# Altium integrated library Silicon Labs Clocks and Oscillators.IntLib: 678 symbols (part 1 of 45)
Pins are listed as number, name and electrical type; pins without a type are passive.

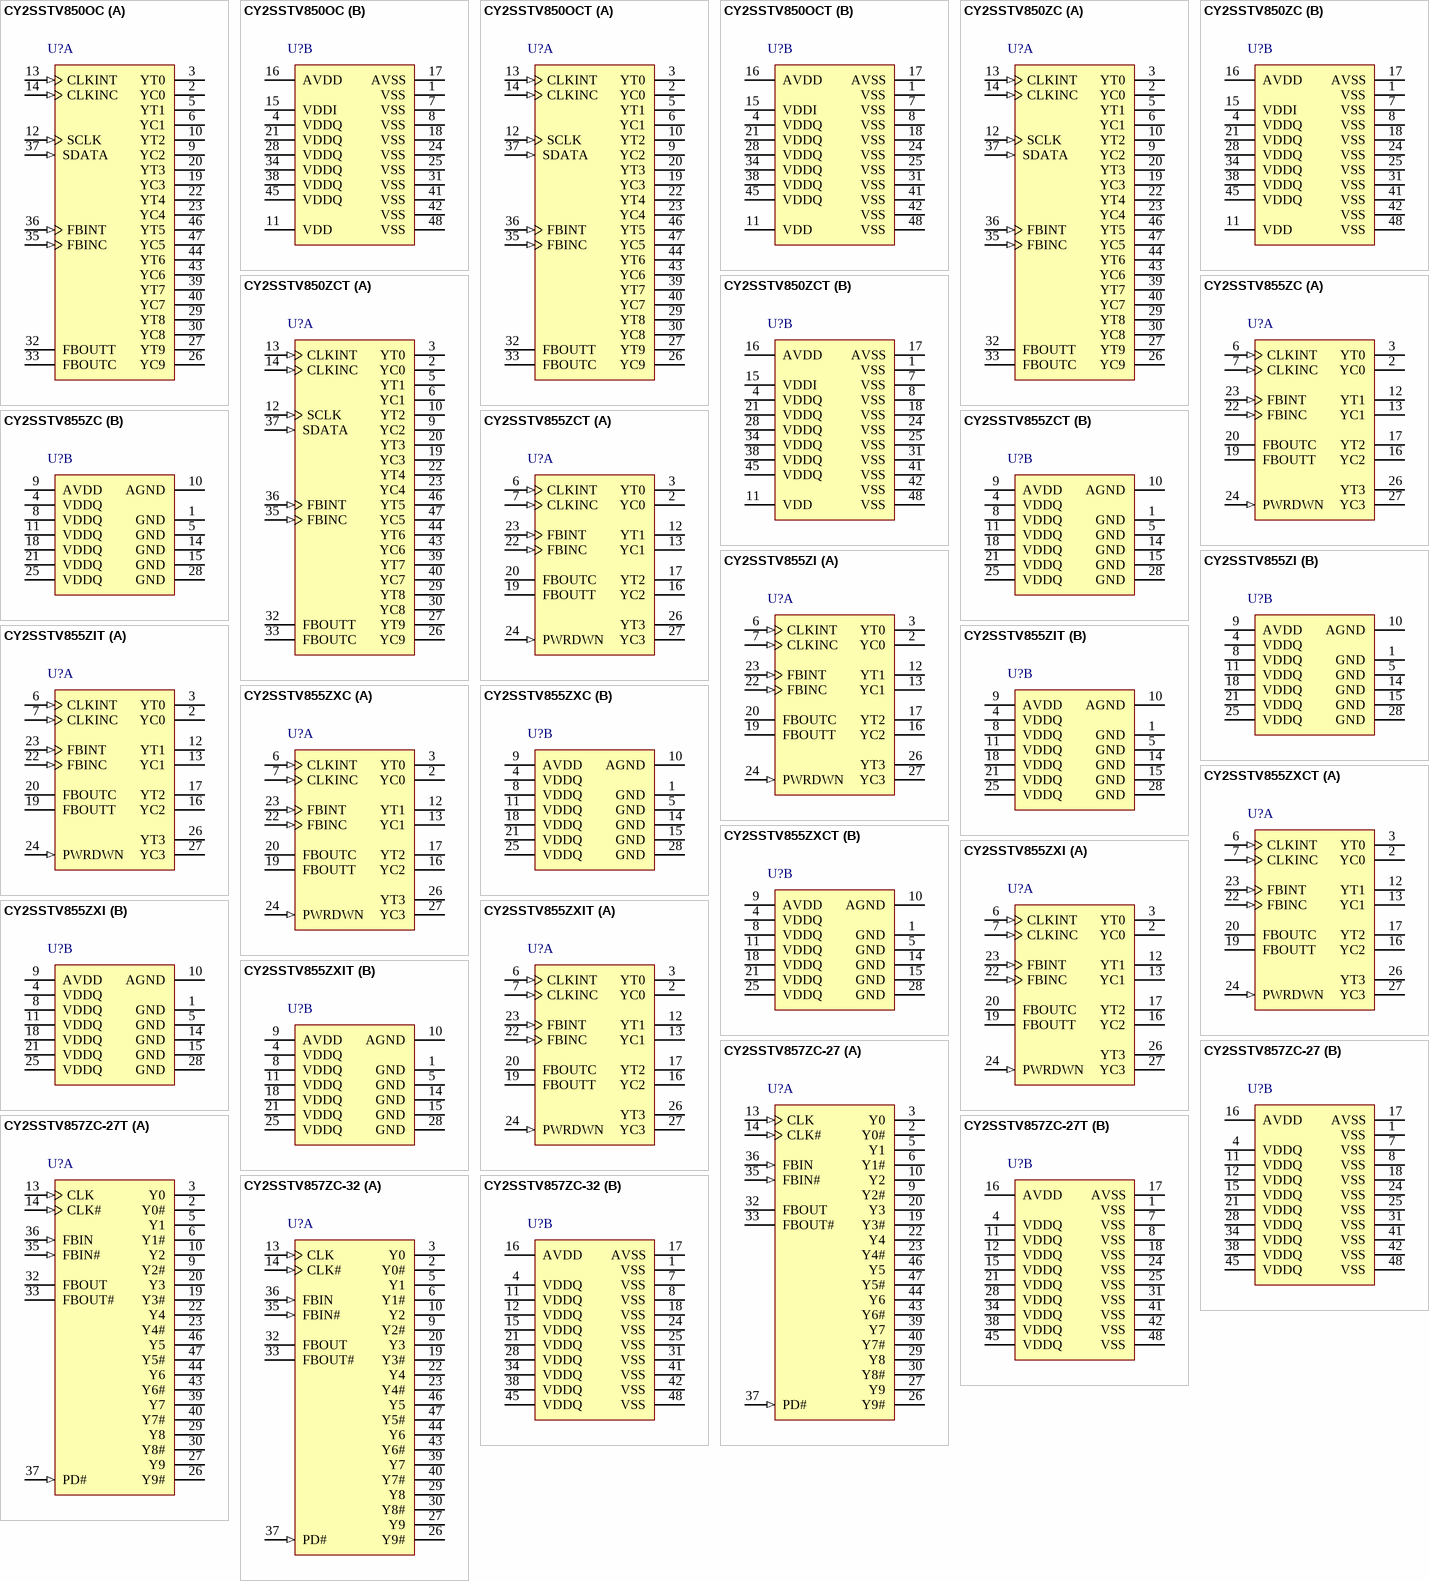
[diagram p0: symbols CY2SSTV850OC to CY2SSTV857ZC-32]

## CY2SSTV850OC
designator U?
Differential Clock Buffer / Driver, 2.5 V, 20 to 170 MHz Output, 0 to 70 degC, 48-pin SOP; Manufacturer: Silicon Labs; PartNumber: CY2SSTV850OC; Output Format: SSTL2; Reference Inputs: 2; VDD: 2.5 V; Sub-Family: Clock Generators; DatasheetVersion: Rev. *A; PackageReference: SSOP-48; PackageDescription: 48-Pin Shrink Small-Outline Package, Body 15.875 x 7.51 mm, Pitch 0.635 mm; Output Frequency (MHz): 20 to 170; Mounting Technology: Surface Mount; ComponentLink1Description: Manufacturer URL; ComponentLink1URL: http://www.silabs.com/; ComponentLink2Description: Datasheet; ComponentLink2URL: http://www.silabs.com/Support%20Documents/TechnicalDocs/CY2SSTV850.pdf; ComponentLink3Description: Package Specification; ComponentLink3URL: http://www.silabs.com/Support%20Documents/TechnicalDocs/W255.pdf
footprint SLAB-SSOP-48_N (SOP, 48-Leads, Body 16x7.6mm, Pitch 0.635mm, IPC Medium Density)
footprint SLAB-SSOP-48_L (SOP, 48-Leads, Body 16x7.6mm, Pitch 0.635mm, IPC High Density)
footprint SLAB-SSOP-48_M (SOP, 48-Leads, Body 16x7.6mm, Pitch 0.635mm, IPC Low Density)
part A pins: 2 YC0 (hiz) "Clock Outputs", 3 YT0 (hiz) "Clock Outputs", 5 YT1 (hiz) "Clock Outputs", 6 YC1 (hiz) "Clock Outputs", 9 YC2 (hiz) "Clock Outputs", 10 YT2 (hiz) "Clock Outputs", 12 SCLK (in) "Serial Clock Input. Clocks data at SDATA into the internal register.", 13 CLKINT (in) "Complementary Clock Input.", 14 CLKINC (in) "Complementary Clock Input.", 19 YC3 (hiz) "Clock Outputs", 20 YT3 (hiz) "Clock Outputs", 22 YT4 (hiz) "Clock Outputs", 23 YC4 (hiz) "Clock Outputs", 26 YC9 (hiz) "Clock Outputs", 27 YT9 (hiz) "Clock Outputs", 29 YT8 (hiz) "Clock Outputs", 30 YC8 (hiz) "Clock Outputs", 32 FBOUTT (hiz) "Feedback Clock Output. Connect to FBINT for normal operation. A bypass delay capacitor at this output will control Input Reference/Output Clocks phase relationships.", 33 FBOUTC (hiz) "Feedback Clock Output. Connect to FBINC for normal operation. A bypass delay capacitor at this output will control Input Reference/Output Clocks phase relationships.", 35 FBINC (in) "Feedback Clock Input. Connect to FBOUTC for accessing the PLL.", 36 FBINT (in) "Feedback Clock Input. Connect to FBOUTT for accessing the PLL.", 37 SDATA (in) "Serial Data Input. Input data is clocked to the internal register to enable/disable individual outputs. This provides flexibility in power management.", 39 YT7 (hiz) "Clock Outputs", 40 YC7 (hiz) "Clock Outputs", 43 YC6 (hiz) "Clock Outputs", 44 YT6 (hiz) "Clock Outputs", 46 YT5 (hiz) "Clock Outputs", 47 YC5 (hiz) "Clock Outputs"
part B pins: 1 VSS (power) "Common Ground", 4 VDDQ (power) "2.5V Power Supply for Output Clock Buffers", 7 VSS (power) "Common Ground", 8 VSS (power) "Common Ground", 11 VDD (power) "2.5V power Supply for Logic", 15 VDDI (power) "Power Supply for two-line serial Interface", 16 AVDD (power) "2.5V Power Supply for PLL", 17 AVSS (power) "Analog Ground", 18 VSS (power) "Common Ground", 21 VDDQ (power) "2.5V Power Supply for Output Clock Buffers", 24 VSS (power) "Common Ground", 25 VSS (power) "Common Ground", 28 VDDQ (power) "2.5V Power Supply for Output Clock Buffers", 31 VSS (power) "Common Ground", 34 VDDQ (power) "2.5V Power Supply for Output Clock Buffers", 38 VDDQ (power) "2.5V Power Supply for Output Clock Buffers", 41 VSS (power) "Common Ground", 42 VSS (power) "Common Ground", 45 VDDQ (power) "2.5V Power Supply for Output Clock Buffers", 48 VSS (power) "Common Ground"

## CY2SSTV850OCT
designator U?
Differential Clock Buffer / Driver, 2.5 V, 20 to 170 MHz Output, 0 to 70 degC, 48-pin SOP, Tape and Reel; Manufacturer: Silicon Labs; PartNumber: CY2SSTV850OCT; Output Format: SSTL2; Phase Jitter (RMS): > 1 ps; Reference Inputs: 2; VDD: 2.5 V; Sub-Family: Clock Generators; DatasheetVersion: Rev. *A; PackageReference: SSOP-48; PackageDescription: 48-Pin Shrink Small-Outline Package, Body 15.875 x 7.51 mm, Pitch 0.635 mm; Output Frequency (MHz): 20 to 170; Packing: Tape and Reel; Mounting Technology: Surface Mount; ComponentLink1Description: Manufacturer URL; ComponentLink1URL: http://www.silabs.com/; ComponentLink2Description: Datasheet; ComponentLink2URL: http://www.silabs.com/Support%20Documents/TechnicalDocs/CY2SSTV850.pdf; ComponentLink3Description: Package Specification; ComponentLink3URL: http://www.silabs.com/Support%20Documents/TechnicalDocs/W255.pdf
footprint SLAB-SSOP-48_N (SOP, 48-Leads, Body 16x7.6mm, Pitch 0.635mm, IPC Medium Density)
footprint SLAB-SSOP-48_L (SOP, 48-Leads, Body 16x7.6mm, Pitch 0.635mm, IPC High Density)
footprint SLAB-SSOP-48_M (SOP, 48-Leads, Body 16x7.6mm, Pitch 0.635mm, IPC Low Density)
part A pins: 2 YC0 (hiz) "Clock Outputs", 3 YT0 (hiz) "Clock Outputs", 5 YT1 (hiz) "Clock Outputs", 6 YC1 (hiz) "Clock Outputs", 9 YC2 (hiz) "Clock Outputs", 10 YT2 (hiz) "Clock Outputs", 12 SCLK (in) "Serial Clock Input. Clocks data at SDATA into the internal register.", 13 CLKINT (in) "Complementary Clock Input.", 14 CLKINC (in) "Complementary Clock Input.", 19 YC3 (hiz) "Clock Outputs", 20 YT3 (hiz) "Clock Outputs", 22 YT4 (hiz) "Clock Outputs", 23 YC4 (hiz) "Clock Outputs", 26 YC9 (hiz) "Clock Outputs", 27 YT9 (hiz) "Clock Outputs", 29 YT8 (hiz) "Clock Outputs", 30 YC8 (hiz) "Clock Outputs", 32 FBOUTT (hiz) "Feedback Clock Output. Connect to FBINT for normal operation. A bypass delay capacitor at this output will control Input Reference/Output Clocks phase relationships.", 33 FBOUTC (hiz) "Feedback Clock Output. Connect to FBINC for normal operation. A bypass delay capacitor at this output will control Input Reference/Output Clocks phase relationships.", 35 FBINC (in) "Feedback Clock Input. Connect to FBOUTC for accessing the PLL.", 36 FBINT (in) "Feedback Clock Input. Connect to FBOUTT for accessing the PLL.", 37 SDATA (in) "Serial Data Input. Input data is clocked to the internal register to enable/disable individual outputs. This provides flexibility in power management.", 39 YT7 (hiz) "Clock Outputs", 40 YC7 (hiz) "Clock Outputs", 43 YC6 (hiz) "Clock Outputs", 44 YT6 (hiz) "Clock Outputs", 46 YT5 (hiz) "Clock Outputs", 47 YC5 (hiz) "Clock Outputs"
part B pins: 1 VSS (power) "Common Ground", 4 VDDQ (power) "2.5V Power Supply for Output Clock Buffers", 7 VSS (power) "Common Ground", 8 VSS (power) "Common Ground", 11 VDD (power) "2.5V power Supply for Logic", 15 VDDI (power) "Power Supply for two-line serial Interface", 16 AVDD (power) "2.5V Power Supply for PLL", 17 AVSS (power) "Analog Ground", 18 VSS (power) "Common Ground", 21 VDDQ (power) "2.5V Power Supply for Output Clock Buffers", 24 VSS (power) "Common Ground", 25 VSS (power) "Common Ground", 28 VDDQ (power) "2.5V Power Supply for Output Clock Buffers", 31 VSS (power) "Common Ground", 34 VDDQ (power) "2.5V Power Supply for Output Clock Buffers", 38 VDDQ (power) "2.5V Power Supply for Output Clock Buffers", 41 VSS (power) "Common Ground", 42 VSS (power) "Common Ground", 45 VDDQ (power) "2.5V Power Supply for Output Clock Buffers", 48 VSS (power) "Common Ground"

## CY2SSTV850ZC
designator U?
Differential Clock Buffer / Driver, 2.5 V, 20 to 170 MHz Output, 0 to 70 degC, 48-pin SOP; Manufacturer: Silicon Labs; PartNumber: CY2SSTV850ZC; Output Format: SSTL2; Reference Inputs: 2; VDD: 2.5 V; Sub-Family: Clock Generators; DatasheetVersion: Rev. *A; PackageReference: TSSOP-48; PackageDescription: 48-Pin Thin Shrink Small-Outline Package, Body 12.5 x 6.1 mm, Pitch 0.5 mm; Supplier 1: Digi-Key; Supplier Part Number 1: CY2SSTV850ZC-ND; Supplier 2: Mouser; Supplier Part Number 2: 634-CY2SSTV850ZC; Output Frequency (MHz): 20 to 170; Mounting Technology: Surface Mount; Code_JEDEC: MO-153; ComponentLink1Description: Manufacturer URL; ComponentLink1URL: http://www.silabs.com/; ComponentLink2Description: Datasheet; ComponentLink2URL: http://www.silabs.com/Support%20Documents/TechnicalDocs/CY2SSTV850.pdf; ComponentLink3Description: Package Specification; ComponentLink3URL: http://www.silabs.com/Support%20Documents/TechnicalDocs/C9530.pdf
footprint SLAB-TSSOP-48_N (SOP, 48-Leads, Body 12.6x6.2mm, Pitch 0.5mm, IPC Medium Density)
footprint SLAB-TSSOP-48_L (SOP, 48-Leads, Body 12.6x6.2mm, Pitch 0.5mm, IPC High Density)
footprint SLAB-TSSOP-48_M (SOP, 48-Leads, Body 12.6x6.2mm, Pitch 0.5mm, IPC Low Density)
part A pins: 2 YC0 (hiz) "Clock Outputs", 3 YT0 (hiz) "Clock Outputs", 5 YT1 (hiz) "Clock Outputs", 6 YC1 (hiz) "Clock Outputs", 9 YC2 (hiz) "Clock Outputs", 10 YT2 (hiz) "Clock Outputs", 12 SCLK (in) "Serial Clock Input. Clocks data at SDATA into the internal register.", 13 CLKINT (in) "Complementary Clock Input.", 14 CLKINC (in) "Complementary Clock Input.", 19 YC3 (hiz) "Clock Outputs", 20 YT3 (hiz) "Clock Outputs", 22 YT4 (hiz) "Clock Outputs", 23 YC4 (hiz) "Clock Outputs", 26 YC9 (hiz) "Clock Outputs", 27 YT9 (hiz) "Clock Outputs", 29 YT8 (hiz) "Clock Outputs", 30 YC8 (hiz) "Clock Outputs", 32 FBOUTT (hiz) "Feedback Clock Output. Connect to FBINT for normal operation. A bypass delay capacitor at this output will control Input Reference/Output Clocks phase relationships.", 33 FBOUTC (hiz) "Feedback Clock Output. Connect to FBINC for normal operation. A bypass delay capacitor at this output will control Input Reference/Output Clocks phase relationships.", 35 FBINC (in) "Feedback Clock Input. Connect to FBOUTC for accessing the PLL.", 36 FBINT (in) "Feedback Clock Input. Connect to FBOUTT for accessing the PLL.", 37 SDATA (in) "Serial Data Input. Input data is clocked to the internal register to enable/disable individual outputs. This provides flexibility in power management.", 39 YT7 (hiz) "Clock Outputs", 40 YC7 (hiz) "Clock Outputs", 43 YC6 (hiz) "Clock Outputs", 44 YT6 (hiz) "Clock Outputs", 46 YT5 (hiz) "Clock Outputs", 47 YC5 (hiz) "Clock Outputs"
part B pins: 1 VSS (power) "Common Ground", 4 VDDQ (power) "2.5V Power Supply for Output Clock Buffers", 7 VSS (power) "Common Ground", 8 VSS (power) "Common Ground", 11 VDD (power) "2.5V power Supply for Logic", 15 VDDI (power) "Power Supply for two-line serial Interface", 16 AVDD (power) "2.5V Power Supply for PLL", 17 AVSS (power) "Analog Ground", 18 VSS (power) "Common Ground", 21 VDDQ (power) "2.5V Power Supply for Output Clock Buffers", 24 VSS (power) "Common Ground", 25 VSS (power) "Common Ground", 28 VDDQ (power) "2.5V Power Supply for Output Clock Buffers", 31 VSS (power) "Common Ground", 34 VDDQ (power) "2.5V Power Supply for Output Clock Buffers", 38 VDDQ (power) "2.5V Power Supply for Output Clock Buffers", 41 VSS (power) "Common Ground", 42 VSS (power) "Common Ground", 45 VDDQ (power) "2.5V Power Supply for Output Clock Buffers", 48 VSS (power) "Common Ground"

## CY2SSTV850ZCT
designator U?
Differential Clock Buffer / Driver, 2.5 V, 20 to 170 MHz Output, 0 to 70 degC, 48-pin SOP, Tape and Reel; Manufacturer: Silicon Labs; PartNumber: CY2SSTV850ZCT; Output Format: SSTL2; Phase Jitter (RMS): > 1 ps; Reference Inputs: 2; VDD: 2.5 V; Sub-Family: Clock Generators; DatasheetVersion: Rev. *A; PackageReference: TSSOP-48; PackageDescription: 48-Pin Thin Shrink Small-Outline Package, Body 12.5 x 6.1 mm, Pitch 0.5 mm; Supplier 1: Digi-Key; Supplier Part Number 1: CY2SSTV850ZCT-ND; Supplier 2: Mouser; Supplier Part Number 2: 634-CY2SSTV850ZCT; Output Frequency (MHz): 20 to 170; Packing: Tape and Reel; Mounting Technology: Surface Mount; Code_JEDEC: MO-153; ComponentLink1Description: Manufacturer URL; ComponentLink1URL: http://www.silabs.com/; ComponentLink2Description: Datasheet; ComponentLink2URL: http://www.silabs.com/Support%20Documents/TechnicalDocs/CY2SSTV850.pdf; ComponentLink3Description: Package Specification; ComponentLink3URL: http://www.silabs.com/Support%20Documents/TechnicalDocs/C9530.pdf
footprint SLAB-TSSOP-48_N (SOP, 48-Leads, Body 12.6x6.2mm, Pitch 0.5mm, IPC Medium Density)
footprint SLAB-TSSOP-48_L (SOP, 48-Leads, Body 12.6x6.2mm, Pitch 0.5mm, IPC High Density)
footprint SLAB-TSSOP-48_M (SOP, 48-Leads, Body 12.6x6.2mm, Pitch 0.5mm, IPC Low Density)
part A pins: 2 YC0 (hiz) "Clock Outputs", 3 YT0 (hiz) "Clock Outputs", 5 YT1 (hiz) "Clock Outputs", 6 YC1 (hiz) "Clock Outputs", 9 YC2 (hiz) "Clock Outputs", 10 YT2 (hiz) "Clock Outputs", 12 SCLK (in) "Serial Clock Input. Clocks data at SDATA into the internal register.", 13 CLKINT (in) "Complementary Clock Input.", 14 CLKINC (in) "Complementary Clock Input.", 19 YC3 (hiz) "Clock Outputs", 20 YT3 (hiz) "Clock Outputs", 22 YT4 (hiz) "Clock Outputs", 23 YC4 (hiz) "Clock Outputs", 26 YC9 (hiz) "Clock Outputs", 27 YT9 (hiz) "Clock Outputs", 29 YT8 (hiz) "Clock Outputs", 30 YC8 (hiz) "Clock Outputs", 32 FBOUTT (hiz) "Feedback Clock Output. Connect to FBINT for normal operation. A bypass delay capacitor at this output will control Input Reference/Output Clocks phase relationships.", 33 FBOUTC (hiz) "Feedback Clock Output. Connect to FBINC for normal operation. A bypass delay capacitor at this output will control Input Reference/Output Clocks phase relationships.", 35 FBINC (in) "Feedback Clock Input. Connect to FBOUTC for accessing the PLL.", 36 FBINT (in) "Feedback Clock Input. Connect to FBOUTT for accessing the PLL.", 37 SDATA (in) "Serial Data Input. Input data is clocked to the internal register to enable/disable individual outputs. This provides flexibility in power management.", 39 YT7 (hiz) "Clock Outputs", 40 YC7 (hiz) "Clock Outputs", 43 YC6 (hiz) "Clock Outputs", 44 YT6 (hiz) "Clock Outputs", 46 YT5 (hiz) "Clock Outputs", 47 YC5 (hiz) "Clock Outputs"
part B pins: 1 VSS (power) "Common Ground", 4 VDDQ (power) "2.5V Power Supply for Output Clock Buffers", 7 VSS (power) "Common Ground", 8 VSS (power) "Common Ground", 11 VDD (power) "2.5V power Supply for Logic", 15 VDDI (power) "Power Supply for two-line serial Interface", 16 AVDD (power) "2.5V Power Supply for PLL", 17 AVSS (power) "Analog Ground", 18 VSS (power) "Common Ground", 21 VDDQ (power) "2.5V Power Supply for Output Clock Buffers", 24 VSS (power) "Common Ground", 25 VSS (power) "Common Ground", 28 VDDQ (power) "2.5V Power Supply for Output Clock Buffers", 31 VSS (power) "Common Ground", 34 VDDQ (power) "2.5V Power Supply for Output Clock Buffers", 38 VDDQ (power) "2.5V Power Supply for Output Clock Buffers", 41 VSS (power) "Common Ground", 42 VSS (power) "Common Ground", 45 VDDQ (power) "2.5V Power Supply for Output Clock Buffers", 48 VSS (power) "Common Ground"

## CY2SSTV855ZC
designator U?
Differential Clock Buffer / Driver, 2.5 V, 20 to 170 MHz Output, 0 to 70 degC, 28-pin SOP; Manufacturer: Silicon Labs; PartNumber: CY2SSTV855ZC; Output Format: SSTL2; Reference Inputs: 2; VDD: 2.5 V; Sub-Family: Clock Generators; DatasheetVersion: Rev. *F; PackageReference: TSSOP-28; PackageDescription: 28-Pin Thin Shrink Small-Outline Package, Body 9.7 x 4.4 mm, Pitch 0.65 mm; Output Frequency (MHz): 20 to 170; Mounting Technology: Surface Mount; Code_JEDEC: MO-153; ComponentLink1Description: Manufacturer URL; ComponentLink1URL: http://www.silabs.com/; ComponentLink2Description: Datasheet; ComponentLink2URL: http://www.silabs.com/Support%20Documents/TechnicalDocs/CY2SSTV855.pdf; ComponentLink3Description: Package Specification; ComponentLink3URL: http://www.silabs.com/Support%20Documents/TechnicalDocs/CY2SSTV855.pdf
footprint SLAB-TSSOP-28_N (SOP, 28-Leads, Body 9.8x4.5mm, Pitch 0.65mm, IPC Medium Density)
footprint SLAB-TSSOP-28_L (SOP, 28-Leads, Body 9.8x4.5mm, Pitch 0.65mm, IPC High Density)
footprint SLAB-TSSOP-28_M (SOP, 28-Leads, Body 9.8x4.5mm, Pitch 0.65mm, IPC Low Density)
part A pins: 2 YC0 (hiz) "Complementary Clock Outputs. Differential Outputs.", 3 YT0 (hiz) "True Clock Outputs. Differential Outputs.", 6 CLKINT (in) "True Clock Input.", 7 CLKINC (in) "Complementary Clock Input.", 12 YT1 (hiz) "True Clock Outputs. Differential Outputs.", 13 YC1 (hiz) "Complementary Clock Outputs. Differential Outputs.", 16 YC2 (hiz) "Complementary Clock Outputs. Differential Outputs.", 17 YT2 (hiz) "True Clock Outputs. Differential Outputs.", 19 FBOUTT (hiz) "Feedback True Clock Output.", 20 FBOUTC (hiz) "Feedback Complementary Clock Output.", 22 FBINC (in) "Feedback Complementary Clock Input.", 23 FBINT (in) "Feedback True Clock Input.", 24 PWRDWN (in) "Control input to turn device in the power-down mode.", 26 YT3 (hiz) "True Clock Outputs. Differential Outputs.", 27 YC3 (hiz) "Complementary Clock Outputs. Differential Outputs."
part B pins: 1 GND (power) "Ground", 4 VDDQ (power) "2.5V Power Supply for Output Clock Buffers.2.5V Nominal.", 5 GND (power) "Ground", 8 VDDQ (power) "2.5V Power Supply for Output Clock Buffers.2.5V Nominal.", 9 AVDD (power) "2.5V Power Supply for PLL. 2.5V Nominal.", 10 AGND (power) "Analog Ground. 2.5V Analog Ground.", 11 VDDQ (power) "2.5V Power Supply for Output Clock Buffers.2.5V Nominal.", 14 GND (power) "Ground", 15 GND (power) "Ground", 18 VDDQ (power) "2.5V Power Supply for Output Clock Buffers.2.5V Nominal.", 21 VDDQ (power) "2.5V Power Supply for Output Clock Buffers.2.5V Nominal.", 25 VDDQ (power) "2.5V Power Supply for Output Clock Buffers.2.5V Nominal.", 28 GND (power) "Ground"

## CY2SSTV855ZCT
designator U?
Differential Clock Buffer / Driver, 2.5 V, 20 to 170 MHz Output, 0 to 70 degC, 28-pin SOP, Tape and Reel; Manufacturer: Silicon Labs; PartNumber: CY2SSTV855ZCT; Output Format: SSTL2; Phase Jitter (RMS): > 1 ps; Reference Inputs: 2; VDD: 2.5 V; Sub-Family: Clock Generators; DatasheetVersion: Rev. *F; PackageReference: TSSOP-28; PackageDescription: 28-Pin Thin Shrink Small-Outline Package, Body 9.7 x 4.4 mm, Pitch 0.65 mm; Output Frequency (MHz): 20 to 170; Packing: Tape and Reel; Mounting Technology: Surface Mount; Code_JEDEC: MO-153; ComponentLink1Description: Manufacturer URL; ComponentLink1URL: http://www.silabs.com/; ComponentLink2Description: Datasheet; ComponentLink2URL: http://www.silabs.com/Support%20Documents/TechnicalDocs/CY2SSTV855.pdf; ComponentLink3Description: Package Specification; ComponentLink3URL: http://www.silabs.com/Support%20Documents/TechnicalDocs/CY2SSTV855.pdf
footprint SLAB-TSSOP-28_N (SOP, 28-Leads, Body 9.8x4.5mm, Pitch 0.65mm, IPC Medium Density)
footprint SLAB-TSSOP-28_L (SOP, 28-Leads, Body 9.8x4.5mm, Pitch 0.65mm, IPC High Density)
footprint SLAB-TSSOP-28_M (SOP, 28-Leads, Body 9.8x4.5mm, Pitch 0.65mm, IPC Low Density)
part A pins: 2 YC0 (hiz) "Complementary Clock Outputs. Differential Outputs.", 3 YT0 (hiz) "True Clock Outputs. Differential Outputs.", 6 CLKINT (in) "True Clock Input.", 7 CLKINC (in) "Complementary Clock Input.", 12 YT1 (hiz) "True Clock Outputs. Differential Outputs.", 13 YC1 (hiz) "Complementary Clock Outputs. Differential Outputs.", 16 YC2 (hiz) "Complementary Clock Outputs. Differential Outputs.", 17 YT2 (hiz) "True Clock Outputs. Differential Outputs.", 19 FBOUTT (hiz) "Feedback True Clock Output.", 20 FBOUTC (hiz) "Feedback Complementary Clock Output.", 22 FBINC (in) "Feedback Complementary Clock Input.", 23 FBINT (in) "Feedback True Clock Input.", 24 PWRDWN (in) "Control input to turn device in the power-down mode.", 26 YT3 (hiz) "True Clock Outputs. Differential Outputs.", 27 YC3 (hiz) "Complementary Clock Outputs. Differential Outputs."
part B pins: 1 GND (power) "Ground", 4 VDDQ (power) "2.5V Power Supply for Output Clock Buffers.2.5V Nominal.", 5 GND (power) "Ground", 8 VDDQ (power) "2.5V Power Supply for Output Clock Buffers.2.5V Nominal.", 9 AVDD (power) "2.5V Power Supply for PLL. 2.5V Nominal.", 10 AGND (power) "Analog Ground. 2.5V Analog Ground.", 11 VDDQ (power) "2.5V Power Supply for Output Clock Buffers.2.5V Nominal.", 14 GND (power) "Ground", 15 GND (power) "Ground", 18 VDDQ (power) "2.5V Power Supply for Output Clock Buffers.2.5V Nominal.", 21 VDDQ (power) "2.5V Power Supply for Output Clock Buffers.2.5V Nominal.", 25 VDDQ (power) "2.5V Power Supply for Output Clock Buffers.2.5V Nominal.", 28 GND (power) "Ground"

## CY2SSTV855ZI
designator U?
Differential Clock Buffer / Driver, 2.5 V, 20 to 170 MHz Output, -40 to 85 degC, 28-pin SOP; Manufacturer: Silicon Labs; PartNumber: CY2SSTV855ZI; Output Format: SSTL2; Reference Inputs: 2; VDD: 2.5 V; Sub-Family: Clock Generators; DatasheetVersion: Rev. *F; PackageReference: TSSOP-28; PackageDescription: 28-Pin Thin Shrink Small-Outline Package, Body 9.7 x 4.4 mm, Pitch 0.65 mm; Output Frequency (MHz): 20 to 170; Mounting Technology: Surface Mount; Code_JEDEC: MO-153; ComponentLink1Description: Manufacturer URL; ComponentLink1URL: http://www.silabs.com/; ComponentLink2Description: Datasheet; ComponentLink2URL: http://www.silabs.com/Support%20Documents/TechnicalDocs/CY2SSTV855.pdf; ComponentLink3Description: Package Specification; ComponentLink3URL: http://www.silabs.com/Support%20Documents/TechnicalDocs/CY2SSTV855.pdf
footprint SLAB-TSSOP-28_N (SOP, 28-Leads, Body 9.8x4.5mm, Pitch 0.65mm, IPC Medium Density)
footprint SLAB-TSSOP-28_L (SOP, 28-Leads, Body 9.8x4.5mm, Pitch 0.65mm, IPC High Density)
footprint SLAB-TSSOP-28_M (SOP, 28-Leads, Body 9.8x4.5mm, Pitch 0.65mm, IPC Low Density)
part A pins: 2 YC0 (hiz) "Complementary Clock Outputs. Differential Outputs.", 3 YT0 (hiz) "True Clock Outputs. Differential Outputs.", 6 CLKINT (in) "True Clock Input.", 7 CLKINC (in) "Complementary Clock Input.", 12 YT1 (hiz) "True Clock Outputs. Differential Outputs.", 13 YC1 (hiz) "Complementary Clock Outputs. Differential Outputs.", 16 YC2 (hiz) "Complementary Clock Outputs. Differential Outputs.", 17 YT2 (hiz) "True Clock Outputs. Differential Outputs.", 19 FBOUTT (hiz) "Feedback True Clock Output.", 20 FBOUTC (hiz) "Feedback Complementary Clock Output.", 22 FBINC (in) "Feedback Complementary Clock Input.", 23 FBINT (in) "Feedback True Clock Input.", 24 PWRDWN (in) "Control input to turn device in the power-down mode.", 26 YT3 (hiz) "True Clock Outputs. Differential Outputs.", 27 YC3 (hiz) "Complementary Clock Outputs. Differential Outputs."
part B pins: 1 GND (power) "Ground", 4 VDDQ (power) "2.5V Power Supply for Output Clock Buffers.2.5V Nominal.", 5 GND (power) "Ground", 8 VDDQ (power) "2.5V Power Supply for Output Clock Buffers.2.5V Nominal.", 9 AVDD (power) "2.5V Power Supply for PLL. 2.5V Nominal.", 10 AGND (power) "Analog Ground. 2.5V Analog Ground.", 11 VDDQ (power) "2.5V Power Supply for Output Clock Buffers.2.5V Nominal.", 14 GND (power) "Ground", 15 GND (power) "Ground", 18 VDDQ (power) "2.5V Power Supply for Output Clock Buffers.2.5V Nominal.", 21 VDDQ (power) "2.5V Power Supply for Output Clock Buffers.2.5V Nominal.", 25 VDDQ (power) "2.5V Power Supply for Output Clock Buffers.2.5V Nominal.", 28 GND (power) "Ground"

## CY2SSTV855ZIT
designator U?
Differential Clock Buffer / Driver, 2.5 V, 20 to 170 MHz Output, -40 to 85 degC, 28-pin SOP, Tape and Reel; Manufacturer: Silicon Labs; PartNumber: CY2SSTV855ZIT; Output Format: SSTL2; Phase Jitter (RMS): > 1 ps; Reference Inputs: 2; VDD: 2.5 V; Sub-Family: Clock Generators; DatasheetVersion: Rev. *F; PackageReference: TSSOP-28; PackageDescription: 28-Pin Thin Shrink Small-Outline Package, Body 9.7 x 4.4 mm, Pitch 0.65 mm; Output Frequency (MHz): 20 to 170; Packing: Tape and Reel; Mounting Technology: Surface Mount; Code_JEDEC: MO-153; ComponentLink1Description: Manufacturer URL; ComponentLink1URL: http://www.silabs.com/; ComponentLink2Description: Datasheet; ComponentLink2URL: http://www.silabs.com/Support%20Documents/TechnicalDocs/CY2SSTV855.pdf; ComponentLink3Description: Package Specification; ComponentLink3URL: http://www.silabs.com/Support%20Documents/TechnicalDocs/CY2SSTV855.pdf
footprint SLAB-TSSOP-28_N (SOP, 28-Leads, Body 9.8x4.5mm, Pitch 0.65mm, IPC Medium Density)
footprint SLAB-TSSOP-28_L (SOP, 28-Leads, Body 9.8x4.5mm, Pitch 0.65mm, IPC High Density)
footprint SLAB-TSSOP-28_M (SOP, 28-Leads, Body 9.8x4.5mm, Pitch 0.65mm, IPC Low Density)
part A pins: 2 YC0 (hiz) "Complementary Clock Outputs. Differential Outputs.", 3 YT0 (hiz) "True Clock Outputs. Differential Outputs.", 6 CLKINT (in) "True Clock Input.", 7 CLKINC (in) "Complementary Clock Input.", 12 YT1 (hiz) "True Clock Outputs. Differential Outputs.", 13 YC1 (hiz) "Complementary Clock Outputs. Differential Outputs.", 16 YC2 (hiz) "Complementary Clock Outputs. Differential Outputs.", 17 YT2 (hiz) "True Clock Outputs. Differential Outputs.", 19 FBOUTT (hiz) "Feedback True Clock Output.", 20 FBOUTC (hiz) "Feedback Complementary Clock Output.", 22 FBINC (in) "Feedback Complementary Clock Input.", 23 FBINT (in) "Feedback True Clock Input.", 24 PWRDWN (in) "Control input to turn device in the power-down mode.", 26 YT3 (hiz) "True Clock Outputs. Differential Outputs.", 27 YC3 (hiz) "Complementary Clock Outputs. Differential Outputs."
part B pins: 1 GND (power) "Ground", 4 VDDQ (power) "2.5V Power Supply for Output Clock Buffers.2.5V Nominal.", 5 GND (power) "Ground", 8 VDDQ (power) "2.5V Power Supply for Output Clock Buffers.2.5V Nominal.", 9 AVDD (power) "2.5V Power Supply for PLL. 2.5V Nominal.", 10 AGND (power) "Analog Ground. 2.5V Analog Ground.", 11 VDDQ (power) "2.5V Power Supply for Output Clock Buffers.2.5V Nominal.", 14 GND (power) "Ground", 15 GND (power) "Ground", 18 VDDQ (power) "2.5V Power Supply for Output Clock Buffers.2.5V Nominal.", 21 VDDQ (power) "2.5V Power Supply for Output Clock Buffers.2.5V Nominal.", 25 VDDQ (power) "2.5V Power Supply for Output Clock Buffers.2.5V Nominal.", 28 GND (power) "Ground"

## CY2SSTV855ZXC
designator U?
Differential Clock Buffer / Driver, 2.5 V, 20 to 170 MHz Output, 0 to 70 degC, 28-pin SOP; Manufacturer: Silicon Labs; PartNumber: CY2SSTV855ZXC; Output Format: SSTL2; Reference Inputs: 2; VDD: 2.5 V; Sub-Family: Clock Generators; DatasheetVersion: Rev. *F; PackageReference: TSSOP-28; PackageDescription: 28-Pin Thin Shrink Small-Outline Package, Body 9.7 x 4.4 mm, Pitch 0.65 mm; Supplier 1: Digi-Key; Supplier Part Number 1: CY2SSTV855ZXC-ND; Supplier 2: Mouser; Supplier Part Number 2: 634-CY2SSTV855ZXC; Output Frequency (MHz): 20 to 170; Mounting Technology: Surface Mount; Code_JEDEC: MO-153; ComponentLink1Description: Manufacturer URL; ComponentLink1URL: http://www.silabs.com/; ComponentLink2Description: Datasheet; ComponentLink2URL: http://www.silabs.com/Support%20Documents/TechnicalDocs/CY2SSTV855.pdf; ComponentLink3Description: Package Specification; ComponentLink3URL: http://www.silabs.com/Support%20Documents/TechnicalDocs/CY2SSTV855.pdf
footprint SLAB-TSSOP-28_N (SOP, 28-Leads, Body 9.8x4.5mm, Pitch 0.65mm, IPC Medium Density)
footprint SLAB-TSSOP-28_L (SOP, 28-Leads, Body 9.8x4.5mm, Pitch 0.65mm, IPC High Density)
footprint SLAB-TSSOP-28_M (SOP, 28-Leads, Body 9.8x4.5mm, Pitch 0.65mm, IPC Low Density)
part A pins: 2 YC0 (hiz) "Complementary Clock Outputs. Differential Outputs.", 3 YT0 (hiz) "True Clock Outputs. Differential Outputs.", 6 CLKINT (in) "True Clock Input.", 7 CLKINC (in) "Complementary Clock Input.", 12 YT1 (hiz) "True Clock Outputs. Differential Outputs.", 13 YC1 (hiz) "Complementary Clock Outputs. Differential Outputs.", 16 YC2 (hiz) "Complementary Clock Outputs. Differential Outputs.", 17 YT2 (hiz) "True Clock Outputs. Differential Outputs.", 19 FBOUTT (hiz) "Feedback True Clock Output.", 20 FBOUTC (hiz) "Feedback Complementary Clock Output.", 22 FBINC (in) "Feedback Complementary Clock Input.", 23 FBINT (in) "Feedback True Clock Input.", 24 PWRDWN (in) "Control input to turn device in the power-down mode.", 26 YT3 (hiz) "True Clock Outputs. Differential Outputs.", 27 YC3 (hiz) "Complementary Clock Outputs. Differential Outputs."
part B pins: 1 GND (power) "Ground", 4 VDDQ (power) "2.5V Power Supply for Output Clock Buffers.2.5V Nominal.", 5 GND (power) "Ground", 8 VDDQ (power) "2.5V Power Supply for Output Clock Buffers.2.5V Nominal.", 9 AVDD (power) "2.5V Power Supply for PLL. 2.5V Nominal.", 10 AGND (power) "Analog Ground. 2.5V Analog Ground.", 11 VDDQ (power) "2.5V Power Supply for Output Clock Buffers.2.5V Nominal.", 14 GND (power) "Ground", 15 GND (power) "Ground", 18 VDDQ (power) "2.5V Power Supply for Output Clock Buffers.2.5V Nominal.", 21 VDDQ (power) "2.5V Power Supply for Output Clock Buffers.2.5V Nominal.", 25 VDDQ (power) "2.5V Power Supply for Output Clock Buffers.2.5V Nominal.", 28 GND (power) "Ground"

## CY2SSTV855ZXCT
designator U?
Differential Clock Buffer / Driver, 2.5 V, 20 to 170 MHz Output, 0 to 70 degC, 28-pin SOP, Tape and Reel; Manufacturer: Silicon Labs; PartNumber: CY2SSTV855ZXCT; Output Format: SSTL2; Phase Jitter (RMS): > 1 ps; Reference Inputs: 2; VDD: 2.5 V; Sub-Family: Clock Generators; DatasheetVersion: Rev. *F; PackageReference: TSSOP-28; PackageDescription: 28-Pin Thin Shrink Small-Outline Package, Body 9.7 x 4.4 mm, Pitch 0.65 mm; Supplier 1: Digi-Key; Supplier Part Number 1: CY2SSTV855ZXCT-ND; Supplier 2: Mouser; Supplier Part Number 2: 634-CY2SSTV855ZXCT; Output Frequency (MHz): 20 to 170; Packing: Tape and Reel; Mounting Technology: Surface Mount; Code_JEDEC: MO-153; ComponentLink1Description: Manufacturer URL; ComponentLink1URL: http://www.silabs.com/; ComponentLink2Description: Datasheet; ComponentLink2URL: http://www.silabs.com/Support%20Documents/TechnicalDocs/CY2SSTV855.pdf; ComponentLink3Description: Package Specification; ComponentLink3URL: http://www.silabs.com/Support%20Documents/TechnicalDocs/CY2SSTV855.pdf
footprint SLAB-TSSOP-28_N (SOP, 28-Leads, Body 9.8x4.5mm, Pitch 0.65mm, IPC Medium Density)
footprint SLAB-TSSOP-28_L (SOP, 28-Leads, Body 9.8x4.5mm, Pitch 0.65mm, IPC High Density)
footprint SLAB-TSSOP-28_M (SOP, 28-Leads, Body 9.8x4.5mm, Pitch 0.65mm, IPC Low Density)
part A pins: 2 YC0 (hiz) "Complementary Clock Outputs. Differential Outputs.", 3 YT0 (hiz) "True Clock Outputs. Differential Outputs.", 6 CLKINT (in) "True Clock Input.", 7 CLKINC (in) "Complementary Clock Input.", 12 YT1 (hiz) "True Clock Outputs. Differential Outputs.", 13 YC1 (hiz) "Complementary Clock Outputs. Differential Outputs.", 16 YC2 (hiz) "Complementary Clock Outputs. Differential Outputs.", 17 YT2 (hiz) "True Clock Outputs. Differential Outputs.", 19 FBOUTT (hiz) "Feedback True Clock Output.", 20 FBOUTC (hiz) "Feedback Complementary Clock Output.", 22 FBINC (in) "Feedback Complementary Clock Input.", 23 FBINT (in) "Feedback True Clock Input.", 24 PWRDWN (in) "Control input to turn device in the power-down mode.", 26 YT3 (hiz) "True Clock Outputs. Differential Outputs.", 27 YC3 (hiz) "Complementary Clock Outputs. Differential Outputs."
part B pins: 1 GND (power) "Ground", 4 VDDQ (power) "2.5V Power Supply for Output Clock Buffers.2.5V Nominal.", 5 GND (power) "Ground", 8 VDDQ (power) "2.5V Power Supply for Output Clock Buffers.2.5V Nominal.", 9 AVDD (power) "2.5V Power Supply for PLL. 2.5V Nominal.", 10 AGND (power) "Analog Ground. 2.5V Analog Ground.", 11 VDDQ (power) "2.5V Power Supply for Output Clock Buffers.2.5V Nominal.", 14 GND (power) "Ground", 15 GND (power) "Ground", 18 VDDQ (power) "2.5V Power Supply for Output Clock Buffers.2.5V Nominal.", 21 VDDQ (power) "2.5V Power Supply for Output Clock Buffers.2.5V Nominal.", 25 VDDQ (power) "2.5V Power Supply for Output Clock Buffers.2.5V Nominal.", 28 GND (power) "Ground"

## CY2SSTV855ZXI
designator U?
Differential Clock Buffer / Driver, 2.5 V, 20 to 170 MHz Output, -40 to 85 degC, 28-pin SOP; Manufacturer: Silicon Labs; PartNumber: CY2SSTV855ZXI; Output Format: SSTL2; Reference Inputs: 2; VDD: 2.5 V; Sub-Family: Clock Generators; DatasheetVersion: Rev. *F; PackageReference: TSSOP-28; PackageDescription: 28-Pin Thin Shrink Small-Outline Package, Body 9.7 x 4.4 mm, Pitch 0.65 mm; Supplier 1: Digi-Key; Supplier Part Number 1: CY2SSTV855ZXI-ND; Supplier 2: Mouser; Supplier Part Number 2: 634-CY2SSTV855ZXI; Output Frequency (MHz): 20 to 170; Mounting Technology: Surface Mount; Code_JEDEC: MO-153; ComponentLink1Description: Manufacturer URL; ComponentLink1URL: http://www.silabs.com/; ComponentLink2Description: Datasheet; ComponentLink2URL: http://www.silabs.com/Support%20Documents/TechnicalDocs/CY2SSTV855.pdf; ComponentLink3Description: Package Specification; ComponentLink3URL: http://www.silabs.com/Support%20Documents/TechnicalDocs/CY2SSTV855.pdf
footprint SLAB-TSSOP-28_N (SOP, 28-Leads, Body 9.8x4.5mm, Pitch 0.65mm, IPC Medium Density)
footprint SLAB-TSSOP-28_L (SOP, 28-Leads, Body 9.8x4.5mm, Pitch 0.65mm, IPC High Density)
footprint SLAB-TSSOP-28_M (SOP, 28-Leads, Body 9.8x4.5mm, Pitch 0.65mm, IPC Low Density)
part A pins: 2 YC0 (hiz) "Complementary Clock Outputs. Differential Outputs.", 3 YT0 (hiz) "True Clock Outputs. Differential Outputs.", 6 CLKINT (in) "True Clock Input.", 7 CLKINC (in) "Complementary Clock Input.", 12 YT1 (hiz) "True Clock Outputs. Differential Outputs.", 13 YC1 (hiz) "Complementary Clock Outputs. Differential Outputs.", 16 YC2 (hiz) "Complementary Clock Outputs. Differential Outputs.", 17 YT2 (hiz) "True Clock Outputs. Differential Outputs.", 19 FBOUTT (hiz) "Feedback True Clock Output.", 20 FBOUTC (hiz) "Feedback Complementary Clock Output.", 22 FBINC (in) "Feedback Complementary Clock Input.", 23 FBINT (in) "Feedback True Clock Input.", 24 PWRDWN (in) "Control input to turn device in the power-down mode.", 26 YT3 (hiz) "True Clock Outputs. Differential Outputs.", 27 YC3 (hiz) "Complementary Clock Outputs. Differential Outputs."
part B pins: 1 GND (power) "Ground", 4 VDDQ (power) "2.5V Power Supply for Output Clock Buffers.2.5V Nominal.", 5 GND (power) "Ground", 8 VDDQ (power) "2.5V Power Supply for Output Clock Buffers.2.5V Nominal.", 9 AVDD (power) "2.5V Power Supply for PLL. 2.5V Nominal.", 10 AGND (power) "Analog Ground. 2.5V Analog Ground.", 11 VDDQ (power) "2.5V Power Supply for Output Clock Buffers.2.5V Nominal.", 14 GND (power) "Ground", 15 GND (power) "Ground", 18 VDDQ (power) "2.5V Power Supply for Output Clock Buffers.2.5V Nominal.", 21 VDDQ (power) "2.5V Power Supply for Output Clock Buffers.2.5V Nominal.", 25 VDDQ (power) "2.5V Power Supply for Output Clock Buffers.2.5V Nominal.", 28 GND (power) "Ground"

## CY2SSTV855ZXIT
designator U?
Differential Clock Buffer / Driver, 2.5 V, 20 to 170 MHz Output, -40 to 85 degC, 28-pin SOP, Tape and Reel; Manufacturer: Silicon Labs; PartNumber: CY2SSTV855ZXIT; Output Format: SSTL2; Phase Jitter (RMS): > 1 ps; Reference Inputs: 2; VDD: 2.5 V; Sub-Family: Clock Generators; DatasheetVersion: Rev. *F; PackageReference: TSSOP-28; PackageDescription: 28-Pin Thin Shrink Small-Outline Package, Body 9.7 x 4.4 mm, Pitch 0.65 mm; Supplier 1: Digi-Key; Supplier Part Number 1: CY2SSTV855ZXIT-ND; Supplier 2: Mouser; Supplier Part Number 2: 634-CY2SSTV855ZXIT; Output Frequency (MHz): 20 to 170; Packing: Tape and Reel; Mounting Technology: Surface Mount; Code_JEDEC: MO-153; ComponentLink1Description: Manufacturer URL; ComponentLink1URL: http://www.silabs.com/; ComponentLink2Description: Datasheet; ComponentLink2URL: http://www.silabs.com/Support%20Documents/TechnicalDocs/CY2SSTV855.pdf; ComponentLink3Description: Package Specification; ComponentLink3URL: http://www.silabs.com/Support%20Documents/TechnicalDocs/CY2SSTV855.pdf
footprint SLAB-TSSOP-28_N (SOP, 28-Leads, Body 9.8x4.5mm, Pitch 0.65mm, IPC Medium Density)
footprint SLAB-TSSOP-28_L (SOP, 28-Leads, Body 9.8x4.5mm, Pitch 0.65mm, IPC High Density)
footprint SLAB-TSSOP-28_M (SOP, 28-Leads, Body 9.8x4.5mm, Pitch 0.65mm, IPC Low Density)
part A pins: 2 YC0 (hiz) "Complementary Clock Outputs. Differential Outputs.", 3 YT0 (hiz) "True Clock Outputs. Differential Outputs.", 6 CLKINT (in) "True Clock Input.", 7 CLKINC (in) "Complementary Clock Input.", 12 YT1 (hiz) "True Clock Outputs. Differential Outputs.", 13 YC1 (hiz) "Complementary Clock Outputs. Differential Outputs.", 16 YC2 (hiz) "Complementary Clock Outputs. Differential Outputs.", 17 YT2 (hiz) "True Clock Outputs. Differential Outputs.", 19 FBOUTT (hiz) "Feedback True Clock Output.", 20 FBOUTC (hiz) "Feedback Complementary Clock Output.", 22 FBINC (in) "Feedback Complementary Clock Input.", 23 FBINT (in) "Feedback True Clock Input.", 24 PWRDWN (in) "Control input to turn device in the power-down mode.", 26 YT3 (hiz) "True Clock Outputs. Differential Outputs.", 27 YC3 (hiz) "Complementary Clock Outputs. Differential Outputs."
part B pins: 1 GND (power) "Ground", 4 VDDQ (power) "2.5V Power Supply for Output Clock Buffers.2.5V Nominal.", 5 GND (power) "Ground", 8 VDDQ (power) "2.5V Power Supply for Output Clock Buffers.2.5V Nominal.", 9 AVDD (power) "2.5V Power Supply for PLL. 2.5V Nominal.", 10 AGND (power) "Analog Ground. 2.5V Analog Ground.", 11 VDDQ (power) "2.5V Power Supply for Output Clock Buffers.2.5V Nominal.", 14 GND (power) "Ground", 15 GND (power) "Ground", 18 VDDQ (power) "2.5V Power Supply for Output Clock Buffers.2.5V Nominal.", 21 VDDQ (power) "2.5V Power Supply for Output Clock Buffers.2.5V Nominal.", 25 VDDQ (power) "2.5V Power Supply for Output Clock Buffers.2.5V Nominal.", 28 GND (power) "Ground"

## CY2SSTV857ZC-27
designator U?
Differential Clock Buffer / Driver DDR333 / PC2700-Compliant, 2.5 V, 20 to 200 MHz Output, 0 to 70 degC, 48-pin SOP; Manufacturer: Silicon Labs; PartNumber: CY2SSTV857ZC-27; Output Format: SSTL2; Reference Inputs: 2; VDD: 2.5 V; Sub-Family: Clock Generators; DatasheetVersion: Rev. *F; PackageReference: TSSOP-48; PackageDescription: 48-Pin Thin Shrink Small-Outline Package, Body 12.5 x 6.1 mm, Pitch 0.5 mm; Output Frequency (MHz): 20 to 200; Mounting Technology: Surface Mount; Code_JEDEC: MO-153; ComponentLink1Description: Manufacturer URL; ComponentLink1URL: http://www.silabs.com/; ComponentLink2Description: Datasheet; ComponentLink2URL: http://www.silabs.com/Support%20Documents/TechnicalDocs/CY2SSTV857-27.pdf; ComponentLink3Description: Package Specification; ComponentLink3URL: http://www.silabs.com/Support%20Documents/TechnicalDocs/C9530.pdf
footprint SLAB-TSSOP-48_N (SOP, 48-Leads, Body 12.6x6.2mm, Pitch 0.5mm, IPC Medium Density)
footprint SLAB-TSSOP-48_L (SOP, 48-Leads, Body 12.6x6.2mm, Pitch 0.5mm, IPC High Density)
footprint SLAB-TSSOP-48_M (SOP, 48-Leads, Body 12.6x6.2mm, Pitch 0.5mm, IPC Low Density)
part A pins: 2 Y0# (hiz) "Clock Outputs", 3 Y0 (hiz) "Clock Outputs", 5 Y1 (hiz) "Clock Outputs", 6 Y1# (hiz) "Clock Outputs", 9 Y2# (hiz) "Clock Outputs", 10 Y2 (hiz) "Clock Outputs", 13 CLK (in) "Differential Clock Input.", 14 CLK# (in) "Differential Clock Input.", 19 Y3# (hiz) "Clock Outputs", 20 Y3 (hiz) "Clock Outputs", 22 Y4 (hiz) "Clock Outputs", 23 Y4# (hiz) "Clock Outputs", 26 Y9# (hiz) "Clock Outputs", 27 Y9 (hiz) "Clock Outputs", 29 Y8 (hiz) "Clock Outputs", 30 Y8# (hiz) "Clock Outputs", 32 FBOUT (hiz) "Feedback Clock Output", 33 FBOUT# (hiz) "Feedback Clock Output", 35 FBIN# (in) "Feedback Clock Input", 36 FBIN (in) "Feedback Clock Input", 37 PD# (in) "Power Down Input", 39 Y7 (hiz) "Clock Outputs", 40 Y7# (hiz) "Clock Outputs", 43 Y6# (hiz) "Clock Outputs", 44 Y6 (hiz) "Clock Outputs", 46 Y5 (hiz) "Clock Outputs", 47 Y5# (hiz) "Clock Outputs"
part B pins: 1 VSS (power) "Common Ground.", 4 VDDQ (power), 7 VSS (power) "Common Ground.", 8 VSS (power) "Common Ground.", 11 VDDQ (power), 12 VDDQ (power), 15 VDDQ (power), 16 AVDD (power), 17 AVSS (power) "Analog Ground.", 18 VSS (power) "Common Ground.", 21 VDDQ (power), 24 VSS (power) "Common Ground.", 25 VSS (power) "Common Ground.", 28 VDDQ (power), 31 VSS (power) "Common Ground.", 34 VDDQ (power), 38 VDDQ (power), 41 VSS (power) "Common Ground.", 42 VSS (power) "Common Ground.", 45 VDDQ (power), 48 VSS (power) "Common Ground."

## CY2SSTV857ZC-27T
designator U?
Differential Clock Buffer / Driver DDR333 / PC2700-Compliant, 2.5 V, 20 to 200 MHz Output, 0 to 70 degC, 48-pin SOP, Tape and Reel; Manufacturer: Silicon Labs; PartNumber: CY2SSTV857ZC-27T; Output Format: SSTL2; Phase Jitter (RMS): > 1 ps; Reference Inputs: 2; VDD: 2.5 V; Sub-Family: Clock Generators; DatasheetVersion: Rev. *F; PackageReference: TSSOP-48; PackageDescription: 48-Pin Thin Shrink Small-Outline Package, Body 12.5 x 6.1 mm, Pitch 0.5 mm; Output Frequency (MHz): 20 to 200; Packing: Tape and Reel; Mounting Technology: Surface Mount; Code_JEDEC: MO-153; ComponentLink1Description: Manufacturer URL; ComponentLink1URL: http://www.silabs.com/; ComponentLink2Description: Datasheet; ComponentLink2URL: http://www.silabs.com/Support%20Documents/TechnicalDocs/CY2SSTV857-27.pdf; ComponentLink3Description: Package Specification; ComponentLink3URL: http://www.silabs.com/Support%20Documents/TechnicalDocs/C9530.pdf
footprint SLAB-TSSOP-48_N (SOP, 48-Leads, Body 12.6x6.2mm, Pitch 0.5mm, IPC Medium Density)
footprint SLAB-TSSOP-48_L (SOP, 48-Leads, Body 12.6x6.2mm, Pitch 0.5mm, IPC High Density)
footprint SLAB-TSSOP-48_M (SOP, 48-Leads, Body 12.6x6.2mm, Pitch 0.5mm, IPC Low Density)
part A pins: 2 Y0# (hiz) "Clock Outputs", 3 Y0 (hiz) "Clock Outputs", 5 Y1 (hiz) "Clock Outputs", 6 Y1# (hiz) "Clock Outputs", 9 Y2# (hiz) "Clock Outputs", 10 Y2 (hiz) "Clock Outputs", 13 CLK (in) "Differential Clock Input.", 14 CLK# (in) "Differential Clock Input.", 19 Y3# (hiz) "Clock Outputs", 20 Y3 (hiz) "Clock Outputs", 22 Y4 (hiz) "Clock Outputs", 23 Y4# (hiz) "Clock Outputs", 26 Y9# (hiz) "Clock Outputs", 27 Y9 (hiz) "Clock Outputs", 29 Y8 (hiz) "Clock Outputs", 30 Y8# (hiz) "Clock Outputs", 32 FBOUT (hiz) "Feedback Clock Output", 33 FBOUT# (hiz) "Feedback Clock Output", 35 FBIN# (in) "Feedback Clock Input", 36 FBIN (in) "Feedback Clock Input", 37 PD# (in) "Power Down Input", 39 Y7 (hiz) "Clock Outputs", 40 Y7# (hiz) "Clock Outputs", 43 Y6# (hiz) "Clock Outputs", 44 Y6 (hiz) "Clock Outputs", 46 Y5 (hiz) "Clock Outputs", 47 Y5# (hiz) "Clock Outputs"
part B pins: 1 VSS (power) "Common Ground.", 4 VDDQ (power), 7 VSS (power) "Common Ground.", 8 VSS (power) "Common Ground.", 11 VDDQ (power), 12 VDDQ (power), 15 VDDQ (power), 16 AVDD (power), 17 AVSS (power) "Analog Ground.", 18 VSS (power) "Common Ground.", 21 VDDQ (power), 24 VSS (power) "Common Ground.", 25 VSS (power) "Common Ground.", 28 VDDQ (power), 31 VSS (power) "Common Ground.", 34 VDDQ (power), 38 VDDQ (power), 41 VSS (power) "Common Ground.", 42 VSS (power) "Common Ground.", 45 VDDQ (power), 48 VSS (power) "Common Ground."

## CY2SSTV857ZC-32
designator U?
Differential Clock Buffer / Driver DDR400 / PC3200-Compliant, 2.6 V, 20 to 230 MHz Output, 0 to 70 degC, 48-pin SOP; Manufacturer: Silicon Labs; PartNumber: CY2SSTV857ZC-32; Output Format: SSTL2; Reference Inputs: 2; VDD: 2.6 V; Sub-Family: Clock Generators; DatasheetVersion: Rev. *E; PackageReference: TSSOP-48; PackageDescription: 48-Pin Thin Shrink Small-Outline Package, Body 12.5 x 6.1 mm, Pitch 0.5 mm; Output Frequency (MHz): 20 to 230; Mounting Technology: Surface Mount; Code_JEDEC: MO-153; ComponentLink1Description: Manufacturer URL; ComponentLink1URL: http://www.silabs.com/; ComponentLink2Description: Datasheet; ComponentLink2URL: http://www.silabs.com/Support%20Documents/TechnicalDocs/CY2SSTV857-32.pdf; ComponentLink3Description: Package Specification; ComponentLink3URL: http://www.silabs.com/Support%20Documents/TechnicalDocs/C9530.pdf
footprint SLAB-TSSOP-48_N (SOP, 48-Leads, Body 12.6x6.2mm, Pitch 0.5mm, IPC Medium Density)
footprint SLAB-TSSOP-48_L (SOP, 48-Leads, Body 12.6x6.2mm, Pitch 0.5mm, IPC High Density)
footprint SLAB-TSSOP-48_M (SOP, 48-Leads, Body 12.6x6.2mm, Pitch 0.5mm, IPC Low Density)
part A pins: 2 Y0# (hiz) "Clock Outputs", 3 Y0 (hiz) "Clock Outputs", 5 Y1 (hiz) "Clock Outputs", 6 Y1# (hiz) "Clock Outputs", 9 Y2# (hiz) "Clock Outputs", 10 Y2 (hiz) "Clock Outputs", 13 CLK (in) "Differential Clock Input.", 14 CLK# (in) "Differential Clock Input.", 19 Y3# (hiz) "Clock Outputs", 20 Y3 (hiz) "Clock Outputs", 22 Y4 (hiz) "Clock Outputs", 23 Y4# (hiz) "Clock Outputs", 26 Y9# (hiz) "Clock Outputs", 27 Y9 (hiz) "Clock Outputs", 29 Y8 (hiz) "Clock Outputs", 30 Y8# (hiz) "Clock Outputs", 32 FBOUT (hiz) "Feedback Clock Output", 33 FBOUT# (hiz) "Feedback Clock Output", 35 FBIN# (in) "Feedback Clock Input", 36 FBIN (in) "Feedback Clock Input", 37 PD# (in) "Power Down Input", 39 Y7 (hiz) "Clock Outputs", 40 Y7# (hiz) "Clock Outputs", 43 Y6# (hiz) "Clock Outputs", 44 Y6 (hiz) "Clock Outputs", 46 Y5 (hiz) "Clock Outputs", 47 Y5# (hiz) "Clock Outputs"
part B pins: 1 VSS (power) "Common Ground.", 4 VDDQ (power), 7 VSS (power) "Common Ground.", 8 VSS (power) "Common Ground.", 11 VDDQ (power), 12 VDDQ (power), 15 VDDQ (power), 16 AVDD (power), 17 AVSS (power) "Analog Ground.", 18 VSS (power) "Common Ground.", 21 VDDQ (power), 24 VSS (power) "Common Ground.", 25 VSS (power) "Common Ground.", 28 VDDQ (power), 31 VSS (power) "Common Ground.", 34 VDDQ (power), 38 VDDQ (power), 41 VSS (power) "Common Ground.", 42 VSS (power) "Common Ground.", 45 VDDQ (power), 48 VSS (power) "Common Ground."

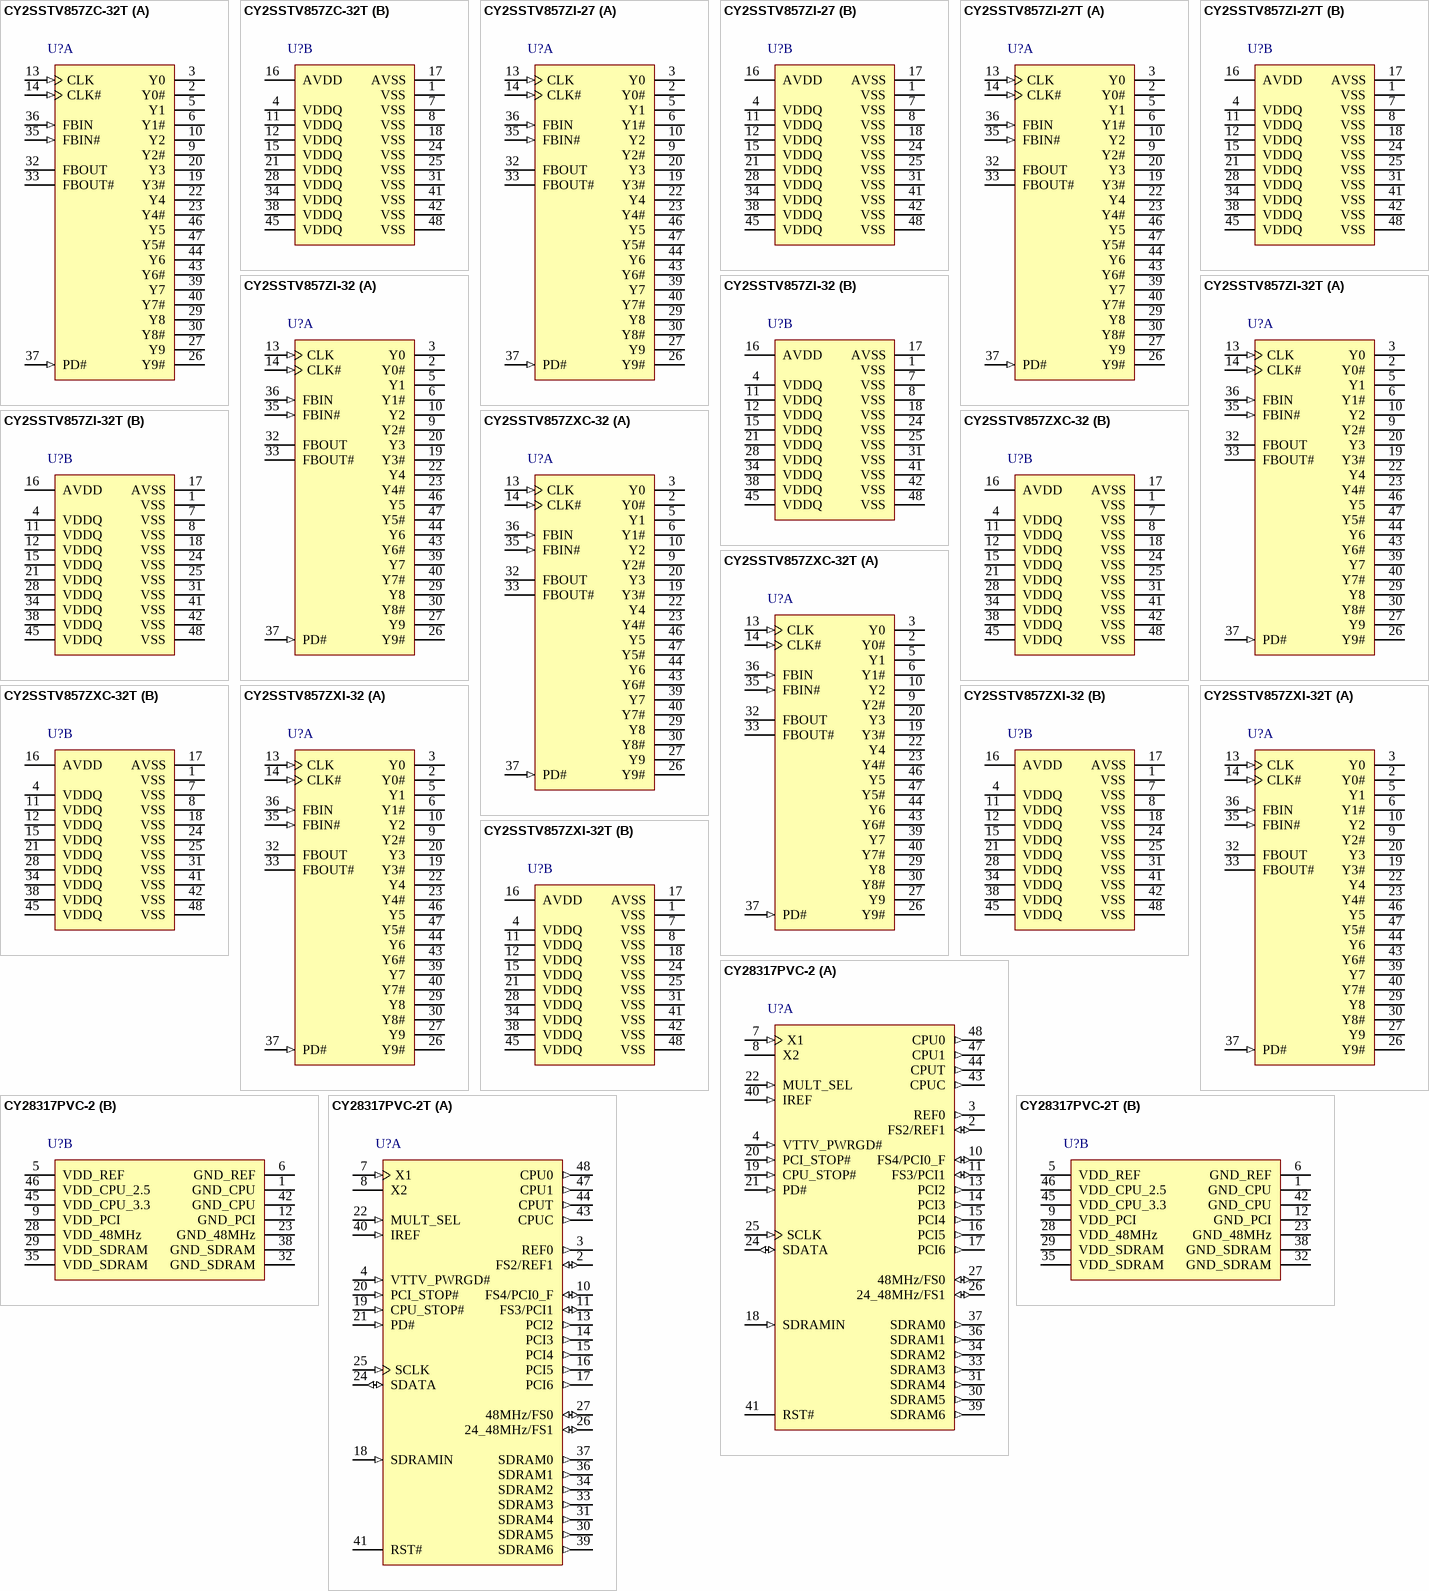
[diagram p1: symbols CY2SSTV857ZC-32T to CY28317PVC-2T]

## CY2SSTV857ZC-32T
designator U?
Differential Clock Buffer / Driver DDR400 / PC3200-Compliant, 2.6 V, 20 to 230 MHz Output, 0 to 70 degC, 48-pin SOP, Tape and Reel; Manufacturer: Silicon Labs; PartNumber: CY2SSTV857ZC-32T; Output Format: SSTL2; Phase Jitter (RMS): > 1 ps; Reference Inputs: 2; VDD: 2.6 V; Sub-Family: Clock Generators; DatasheetVersion: Rev. *E; PackageReference: TSSOP-48; PackageDescription: 48-Pin Thin Shrink Small-Outline Package, Body 12.5 x 6.1 mm, Pitch 0.5 mm; Output Frequency (MHz): 20 to 230; Packing: Tape and Reel; Mounting Technology: Surface Mount; Code_JEDEC: MO-153; ComponentLink1Description: Manufacturer URL; ComponentLink1URL: http://www.silabs.com/; ComponentLink2Description: Datasheet; ComponentLink2URL: http://www.silabs.com/Support%20Documents/TechnicalDocs/CY2SSTV857-32.pdf; ComponentLink3Description: Package Specification; ComponentLink3URL: http://www.silabs.com/Support%20Documents/TechnicalDocs/C9530.pdf
footprint SLAB-TSSOP-48_N (SOP, 48-Leads, Body 12.6x6.2mm, Pitch 0.5mm, IPC Medium Density)
footprint SLAB-TSSOP-48_L (SOP, 48-Leads, Body 12.6x6.2mm, Pitch 0.5mm, IPC High Density)
footprint SLAB-TSSOP-48_M (SOP, 48-Leads, Body 12.6x6.2mm, Pitch 0.5mm, IPC Low Density)
part A pins: 2 Y0# (hiz) "Clock Outputs", 3 Y0 (hiz) "Clock Outputs", 5 Y1 (hiz) "Clock Outputs", 6 Y1# (hiz) "Clock Outputs", 9 Y2# (hiz) "Clock Outputs", 10 Y2 (hiz) "Clock Outputs", 13 CLK (in) "Differential Clock Input.", 14 CLK# (in) "Differential Clock Input.", 19 Y3# (hiz) "Clock Outputs", 20 Y3 (hiz) "Clock Outputs", 22 Y4 (hiz) "Clock Outputs", 23 Y4# (hiz) "Clock Outputs", 26 Y9# (hiz) "Clock Outputs", 27 Y9 (hiz) "Clock Outputs", 29 Y8 (hiz) "Clock Outputs", 30 Y8# (hiz) "Clock Outputs", 32 FBOUT (hiz) "Feedback Clock Output", 33 FBOUT# (hiz) "Feedback Clock Output", 35 FBIN# (in) "Feedback Clock Input", 36 FBIN (in) "Feedback Clock Input", 37 PD# (in) "Power Down Input", 39 Y7 (hiz) "Clock Outputs", 40 Y7# (hiz) "Clock Outputs", 43 Y6# (hiz) "Clock Outputs", 44 Y6 (hiz) "Clock Outputs", 46 Y5 (hiz) "Clock Outputs", 47 Y5# (hiz) "Clock Outputs"
part B pins: 1 VSS (power) "Common Ground.", 4 VDDQ (power), 7 VSS (power) "Common Ground.", 8 VSS (power) "Common Ground.", 11 VDDQ (power), 12 VDDQ (power), 15 VDDQ (power), 16 AVDD (power), 17 AVSS (power) "Analog Ground.", 18 VSS (power) "Common Ground.", 21 VDDQ (power), 24 VSS (power) "Common Ground.", 25 VSS (power) "Common Ground.", 28 VDDQ (power), 31 VSS (power) "Common Ground.", 34 VDDQ (power), 38 VDDQ (power), 41 VSS (power) "Common Ground.", 42 VSS (power) "Common Ground.", 45 VDDQ (power), 48 VSS (power) "Common Ground."